# EAGLE library part 68800811722 (library Wurth_Elektronik_Electromechanic_Wire_to_Board_Connectors_rev15c)
WR-WTB 2.50mm "J"Type Male Horizontal Shrouded Header, 8 Pins=>Code : WTB_2.50-J_PCB_THT_68800811722 <http://katalog.we-online.de/media/thumbs2/eican/thb_Con_WTB_2.50-J_PCB_THT_6880xx11722_pf2%20(2).jpg> Details see: http://katalog.we-online.de/en/em/688_0xx_117_22 Created 2014-06-05, Karrer Zheng 2014 (C) Würth Elektronik
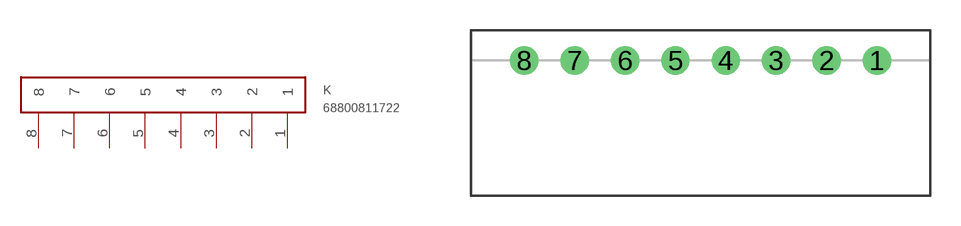
[diagram p20: symbol with the pads of 68800811722; footprint 68800811722]

Designator prefix K

## 68800811722  [68800811722]
1  1
2  2
3  3
4  4
5  5
6  6
7  7
8  8

## Footprint 68800811722 (pad centres in mm)
WR-WTB 2.50mm "J" Type Male Horizontal Shrouded Header, 8 Pins
drill 0.9: 1 1.25,0; 2 -1.25,0; 3 -3.75,0; 4 -6.25,0; 5 -8.75,0; 6 -11.25,0; 7 -13.75,0; 8 -16.25,0